# EAGLE library part MCP6074-E_SL (library MCP6074-E_SL)
Quad 1.8V 1.2MHz Op Amp, E temp Source: Datasheet
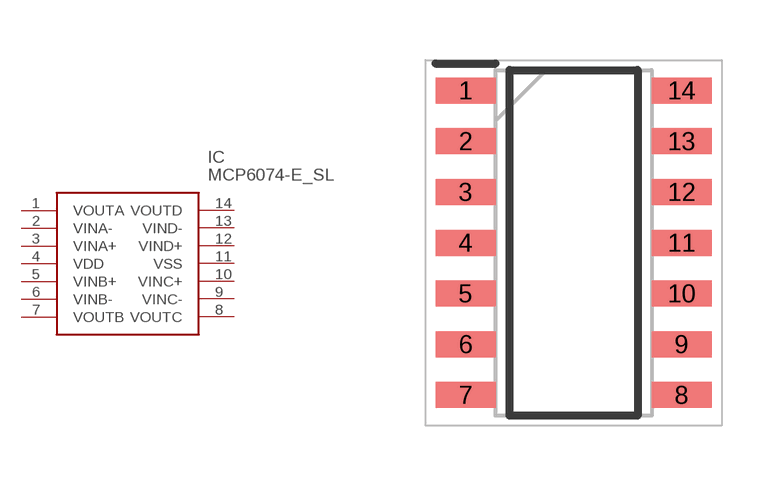
[diagram p0: symbol with the pads of SOIC127P600X175-14N; footprint SOIC127P600X175-14N]

Designator prefix IC

## MCP6074-E_SL (Description: Quad 1.8V 1.2MHz Op Amp, E temp; Height: 1.75mm; Manufacturer_Name: Microchip; Manufacturer_Part_Number: MCP6074-E/SL; Mouser_Part_Number: 579-MCP6074-E/SL; Mouser_Price-Stock: https://www.mouser.co.uk/ProductDetail/Microchip-Technology/MCP6074-E-SL?qs=WqWCsLCZBkrvqgbaY0jiZw%3D%3D)  [SOIC127P600X175-14N]
1  VOUTA  out
2  VINA-  in
3  VINA+  in
4  VDD  pwr
5  VINB+  in
6  VINB-  in
7  VOUTB  out
8  VOUTC  out
9  VINC-  in
10  VINC+  in
11  VSS  pwr
12  VIND+  in
13  VIND-  in
14  VOUTD  out

## Footprint SOIC127P600X175-14N (pad centres in mm)
14-Lead(SL) SOIC
smd 1.5 x 0.65: 1 -2.7,3.81; 2 -2.7,2.54; 3 -2.7,1.27; 4 -2.7,0; 5 -2.7,-1.27; 6 -2.7,-2.54; 7 -2.7,-3.81; 8 2.7,-3.81; 9 2.7,-2.54; 10 2.7,-1.27; 11 2.7,0; 12 2.7,1.27; 13 2.7,2.54; 14 2.7,3.81